# EAGLE library part DELAY_50A-XXXXX (library 1A-meinLib)
Digital Delay Module 50A-Serie, Newport Components. Ersatz: DS1110E-xxx, Dallas/Maxim, TSSOP
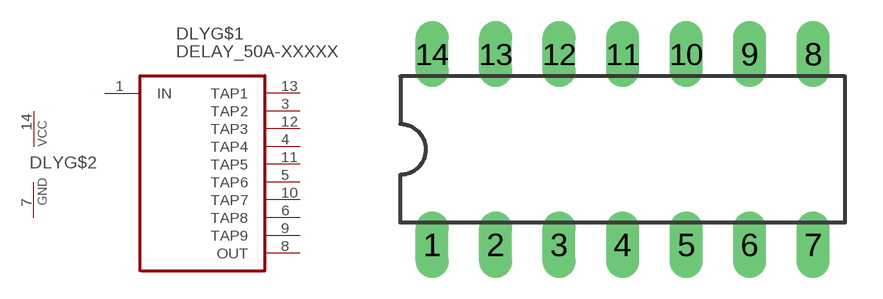
[diagram p90: symbol with the pads of DIL14; footprint DIL14]

Designator prefix DLY; gates G$2=PWRN G$1=DELAY-50A-XXXXX

## DELAY_50A-XXXXX  [DIL14]
1  G$1:IN  in
3  G$1:TAP2  out
4  G$1:TAP4  out
5  G$1:TAP6  out
6  G$1:TAP8  out
7  G$2:GND  pwr
8  G$1:OUT  out
9  G$1:TAP9  out
10  G$1:TAP7  out
11  G$1:TAP5  out
12  G$1:TAP3  out
13  G$1:TAP1  out
14  G$2:VCC  pwr

## Footprint DIL14 (pad centres in mm)
Dual In Line Package
drill 0.813 long: 1 -7.62,-3.81; 2 -5.08,-3.81; 3 -2.54,-3.81; 4 0,-3.81; 5 2.54,-3.81; 6 5.08,-3.81; 7 7.62,-3.81; 8 7.62,3.81; 9 5.08,3.81; 10 2.54,3.81; 11 0,3.81; 12 -2.54,3.81; 13 -5.08,3.81; 14 -7.62,3.81